# Altium footprint library Imperial_SMD.PcbLib: 79 footprints (part 3 of 5)
Each footprint in its own frame and in the unit in brackets; x right, y up, seen from the top. Pads: shape width x height; smd on the part's side, far side on the other; paste and mask are expansions set on the pad; w line width, h text height; cw(c..) or ccw(c..) is an arc to the next point about the centre after c.
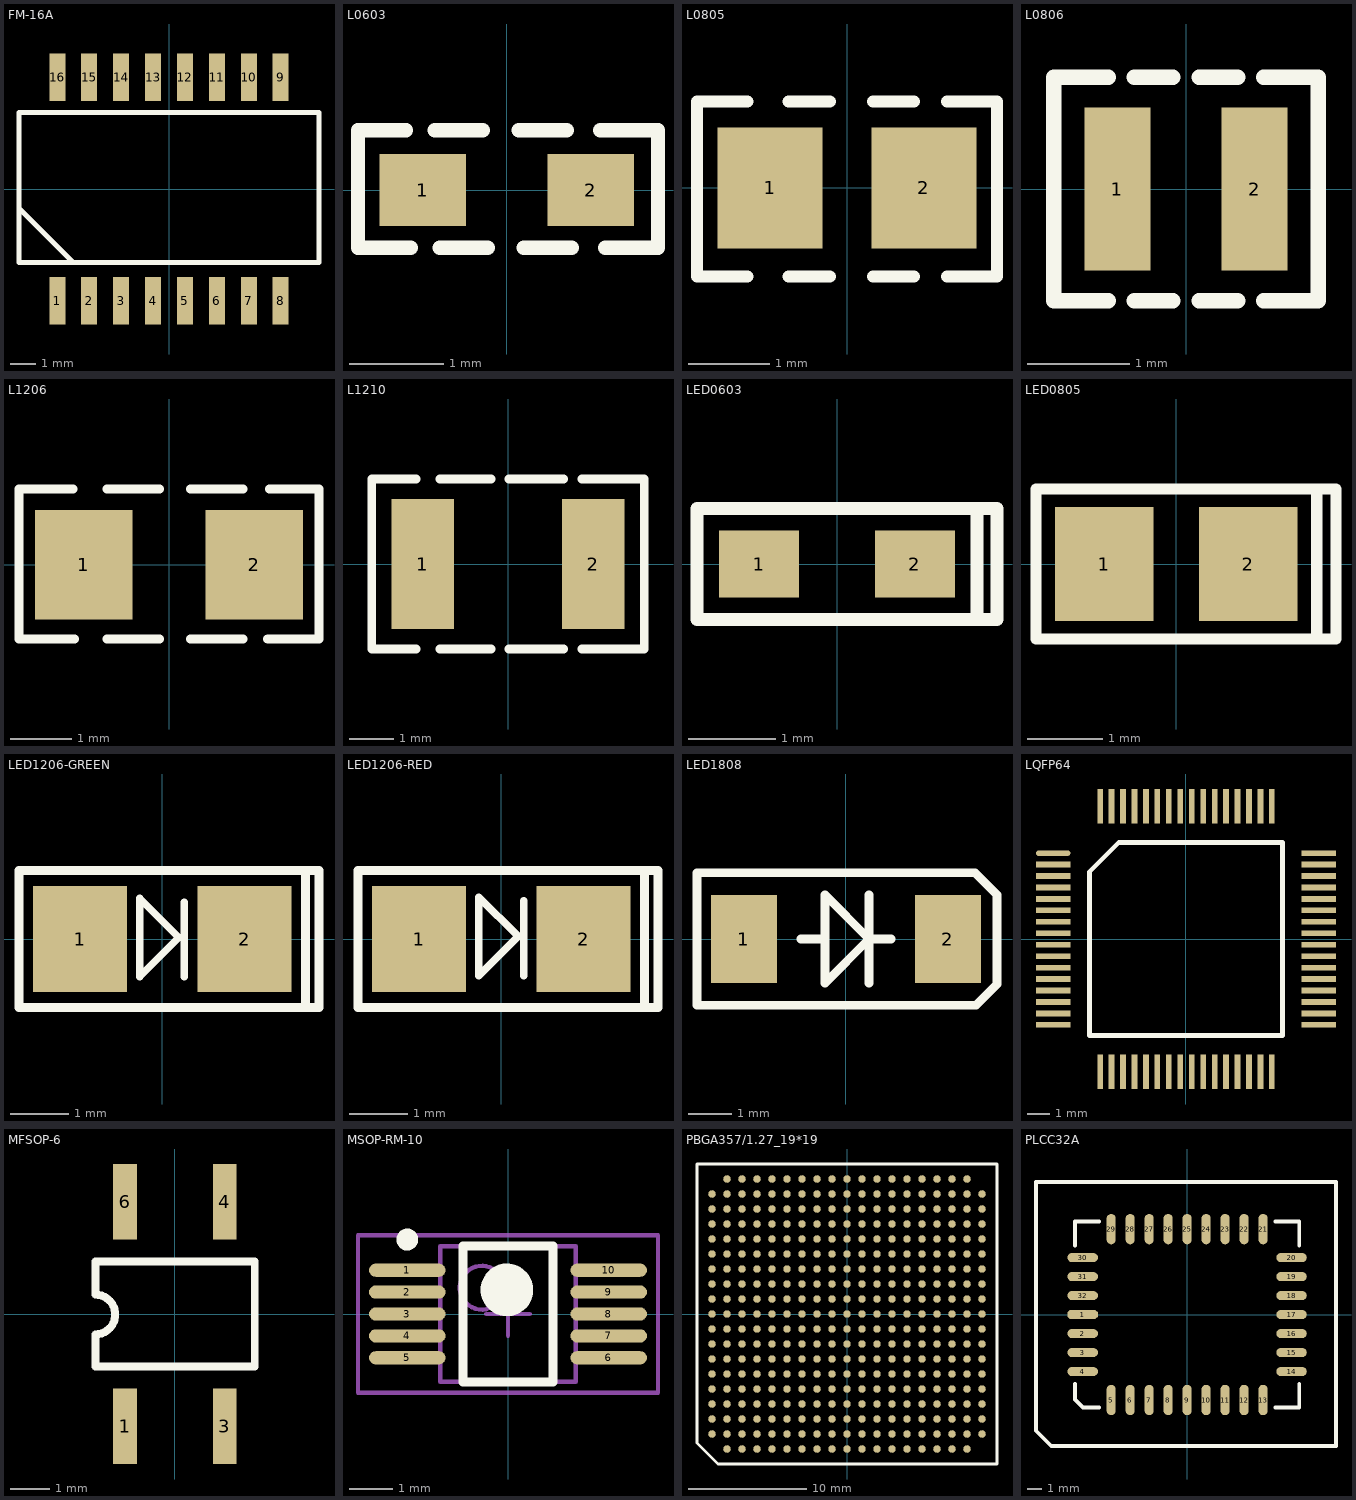
[diagram p2: the footprints below, top view; thin cyan lines are the x and y axes]

## FM-16A [mil] "以太网变压器HR601682"
height 236.22
pads (16):
  rect 25x75 smd: 1(-175,-175) 2(-125,-175) 3(-75,-175) 4(-25,-175) 5(25,-175) 6(75,-175) 7(125,-175) 8(175,-175) 9(175,175) 10(125,175) 11(75,175) 12(25,175) 13(-25,175) 14(-75,175) 15(-125,175) 16(-175,175)
Top Overlay:
  lines w8: -235,-30 -150,-115 ; -235,-115 -235,120 235,120 235,-115 -235,-115
3D body: height 240, standoff 3.94, extent -235,-115 235,120

## L0603 [mil] "贴片电感或磁珠0603,60 x 30 mil"
height 22
pads (2):
  rect 36x30 smd: 1(-35,0) 2(35,0)
Top Overlay:
  lines w5.91: -62,-24 -62,25 ; 63,-24 63,25
  lines w6: -62,-24 -40,-24 ; -61,25 -42,25 ; -30,25 -10,25 ; -28,-24 -8,-24 ; 5,25 25,25 ; 7,-24 27,-24 ; 39,25 63,25 ; 41,-24 63,-24
3D body: height 20, standoff 1, extent -23.62,-17 23.62,16.37
3D body: height 22, standoff 1, extent 23.13,-17.68 31,17
3D body: height 22, standoff 1, extent -32,-17.68 -23.13,17

## L0805 [mm] "贴片电感或磁珠0805,80 x 50mil"
height 0.559
pads (2):
  rect 1.3x1.5 smd: 1(-0.95,0) 2(0.95,0)
Top Overlay:
  lines w0.15: -1.229,-1.092 -1.854,-1.092 -1.854,1.067 -1.229,1.067 ; -0.721,-1.092 -0.213,-1.092 ; -0.721,1.067 -0.213,1.067 ; 0.32,-1.092 0.828,-1.092 ; 0.32,1.067 0.828,1.067 ; 1.234,-1.092 1.854,-1.092 1.854,1.067 1.234,1.067
3D body "User Library-V0805HD.STEP": height 1.21, standoff -0.04, extent -1.025,-0.59 0.975,0.61

## L0806 [mm] "2mmX1.6mm"
height 0.95
pads (2):
  rect 0.65x1.6 smd: 1(-0.675,0) 2(0.675,0)
Top Overlay:
  lines w0.15: -0.762,-1.1 -1.3,-1.1 -1.3,1.1 -0.762,1.1 ; -0.508,-1.1 -0.127,-1.1 ; -0.508,1.1 -0.127,1.1 ; 0.127,-1.1 0.508,-1.1 ; 0.127,1.1 0.508,1.1 ; 0.762,-1.1 1.3,-1.1 1.3,1.1 0.762,1.1

## L1206 [mm] "贴片电感或磁珠1206, 120 x 60 mil"
height 0.61
pads (2):
  rect 1.6x1.8 smd: 1(-1.4,0) 2(1.4,0)
Top Overlay:
  lines w0.15: -1.578,1.245 -2.464,1.245 -2.464,-1.219 -1.552,-1.219 ; -1.019,-1.219 -0.155,-1.219 ; -1.019,1.245 -0.155,1.245 ; 0.353,-1.219 1.216,-1.219 ; 0.353,1.245 1.216,1.245 ; 1.623,-1.219 2.464,-1.219 2.464,1.245 1.648,1.245
3D body "User Library-res1206-1.STEP": height 0.55, standoff 0, extent -1.6,-0.8 1.6,0.8
3D body: height 0.66, standoff 0.03, extent -1.527,-0.686 -1.146,0.686
3D body: height 0.66, standoff 0.03, extent 1.115,-0.686 1.496,0.686

## L1210 [mm] "贴片电感或磁珠1210,公制名称为3225,120x100mil"
pads (2):
  rect 1.4x2.9 smd: 1(-1.905,0) 2(1.905,0)
Top Overlay:
  lines w0.2: -2.057,-1.905 -3.048,-1.905 -3.048,1.905 -2.057,1.905 ; -1.524,-1.905 -0.381,-1.905 ; -1.524,1.905 -0.381,1.905 ; 0.025,-1.905 1.245,-1.905 ; 0.025,1.905 1.245,1.905 ; 1.651,-1.905 3.048,-1.905 3.048,1.905 1.651,1.905
3D body "User Library-RESC3225X06N.STEP": height 0.55, standoff 0, extent -1.6,-1.23 1.6,1.27

## LED0603 [mil] "0603表贴LED,60x30 mil"
height 40
pads (2):
  rect 36x30 smd: 1(-35,0) 2(35,0)
Top Overlay:
  lines w5.91: 63,-25 63,25 ; -63,-25 72,-25 72,25 -63,25 -63,-25
3D body: height 32, standoff 3.94, extent -28.87,-18.31 -19,18.31
3D body: height 32, standoff 3.94, extent 21.13,-18.31 31,18.31
3D body "User Library-LTST-C190GKT.STEP": height 35.43, standoff 0, extent -33.93,-18 33,17.43

## LED0805 [mm] "贴片电感或磁珠0805,80 x 50mil"
height 0.559
pads (2):
  rect 1.3x1.5 smd: 1(-0.95,0) 2(0.95,0)
Top Overlay:
  lines w0.15: 1.854,-0.991 1.854,0.991 ; -1.854,-0.991 -1.854,0.991 2.108,0.991 2.108,-0.991 -1.854,-0.991
3D body: height 0.51, standoff 0.03, extent -0.711,-0.66 0.691,0.648
3D body: height 0.56, standoff 0.03, extent -1.013,-0.686 -0.683,0.686
3D body: height 0.56, standoff 0.03, extent 0.701,-0.686 1.031,0.686

## LED1206-GREEN [mm] "Chip Diode; Body 3.2 x 1.6 mm (LxW typ)"
height 1.5
pads (2):
  rect 1.6x1.8 smd: 1(-1.4,0) 2(1.4,0)
Top Overlay:
  lines w0.127: 0.375,-0.641 0.375,0.629 ; -0.387,-0.641 0.279,0.025 -0.387,0.692 -0.387,-0.641
  lines w0.15: 2.438,-1.168 2.438,1.168 ; 2.438,-1.168 2.667,-1.168 2.667,1.168 2.438,1.168 ; 2.438,-1.168 -2.438,-1.168 -2.438,1.168 2.438,1.168
3D body: height 0.66, standoff 0.03, extent 1.115,-0.686 1.496,0.686
3D body: height 0.66, standoff 0.03, extent -1.527,-0.686 -1.146,0.686
3D body "User Library-led_1206LED1206 green.STEP": height 1.1, standoff 0, extent -1.581,-0.815 1.639,0.785

## LED1206-RED [mm] "Chip Diode; Body 3.2 x 1.6 mm (LxW typ)"
height 1.5
pads (2):
  rect 1.6x1.8 smd: 1(-1.4,0) 2(1.4,0)
Top Overlay:
  lines w0.127: 0.381,-0.622 0.381,0.648 ; -0.381,-0.622 -0.381,0.711 0.286,0.044 -0.381,-0.622
  lines w0.15: 2.438,-1.168 2.438,1.168 ; 2.438,-1.168 2.667,-1.168 2.667,1.168 2.438,1.168 ; 2.438,-1.168 -2.438,-1.168 -2.438,1.168 2.438,1.168
3D body "User Library-led_1206.STEP": height 1.1, standoff 0, extent -1.6,-0.787 1.62,0.813
3D body: height 0.66, standoff 0.03, extent 1.115,-0.686 1.496,0.686
3D body: height 0.66, standoff 0.03, extent -1.527,-0.686 -1.146,0.686

## LED1808 [mil] "同MELF封装"
pads (2):
  rect 60x80 smd: 1(-92.5,0) 2(92.5,0)
Top Overlay:
  lines w7.87: -41,0 -19,0 ; 21,-40 21,40 ; 41,0 21,0 ; 21,0 -19,40 -19,-40 21,0 ; -135,-60 -135,60 117,60 137,40 137,-41 118,-60 -135,-60
3D body "User Library-Vishay - MELF DO-213AB.STEP": height 103.74, standoff -1.38, extent -102.36,-52.12 102.36,53

## LQFP64 [mm] "AT91SAM7S64使用  64引脚"
pads (64):
  oval 1.5x0.25 smd: 1(-5.8,3.75)
  rect 1.5x0.25 smd: 2(-5.8,3.25) 3(-5.8,2.75) 4(-5.8,2.25) 5(-5.8,1.75) 6(-5.8,1.25) 7(-5.8,0.75) 8(-5.8,0.25) 9(-5.8,-0.25) 10(-5.8,-0.75) 11(-5.8,-1.25) 12(-5.8,-1.75) 13(-5.8,-2.25) 14(-5.8,-2.75) 15(-5.8,-3.25) 16(-5.8,-3.75) 33(5.8,-3.75) 34(5.8,-3.25) 35(5.8,-2.75) 36(5.8,-2.25) 37(5.8,-1.75) 38(5.8,-1.25) 39(5.8,-0.75) 40(5.8,-0.25) 41(5.8,0.25) 42(5.8,0.75) 43(5.8,1.25) 44(5.8,1.75) 45(5.8,2.25) 46(5.8,2.75) 47(5.8,3.25) 48(5.8,3.75)
  rect 0.25x1.5 smd: 17(-3.75,-5.8) 18(-3.25,-5.8) 19(-2.75,-5.8) 20(-2.25,-5.8) 21(-1.75,-5.8) 22(-1.25,-5.8) 23(-0.75,-5.8) 24(-0.25,-5.8) 25(0.25,-5.8) 26(0.75,-5.8) 27(1.25,-5.8) 28(1.75,-5.8) 29(2.25,-5.8) 30(2.75,-5.8) 31(3.25,-5.8) 32(3.75,-5.8) 49(3.75,5.8) 50(3.25,5.8) 51(2.75,5.8) 52(2.25,5.8) 53(1.75,5.8) 54(1.25,5.8) 55(0.75,5.8) 56(0.25,5.8) 57(-0.25,5.8) 58(-0.75,5.8) 59(-1.25,5.8) 60(-1.75,5.8) 61(-2.25,5.8) 62(-2.75,5.8) 63(-3.25,5.8) 64(-3.75,5.8)
Top Overlay:
  lines w0.2: -4.215,-4.215 4.215,-4.215 4.215,4.215 -2.93,4.215 -4.215,2.93 -4.215,-4.215
3D body "User Library-LQFP-64.STEP": height 1.7, standoff -0.01, extent -6,-6 6,6

## MFSOP-6 [mil] "东芝光耦TLP127典型,patch=100mil"
height 90
pads (4):
  rect 24x76 smd: 1(-50,-112.5) 3(50,-112.5) 4(50,112.5) 6(-50,112.5)
Top Overlay:
  lines w8: -79.91,-52.5 -79.91,-20.5 ccw(c-79.91,-0.5) -79.91,19.5 -79.91,52.5 80.09,52.5 80.09,-52.5 -79.91,-52.5
3D body: height 100, standoff 1, extent -80,-73.5 81,74.5

## MSOP-RM-10 [mm] "TSSOP, 10-Leads, Body 3.1x3.1mm (max), Pitch 0.50mm, IPC Medium Density"
height 0.95
pads (10):
  oval 1.75x0.3 smd: 1(-2.3,1) 2(-2.3,0.5) 3(-2.3,0) 4(-2.3,-0.5) 5(-2.3,-1) 6(2.3,-1) 7(2.3,-0.5) 8(2.3,0) 9(2.3,0.5) 10(2.3,1)
Top Overlay:
  circle w0.6: c-0.025,0.55 r0.3
  circle w0.25: c-2.3,1.7 r0.125
  lines w0.2: -1.025,-1.55 1.025,-1.55 1.025,1.55 -1.025,1.55 -1.025,-1.55
Mechanical 13:
  circle w0.1: c-0.6,0.6 r0.5
  lines w0.1: -1.55,-1.55 1.55,-1.55 1.55,1.55 -1.55,1.55 -1.55,-1.55
Mechanical 15:
  lines w0.1: -0.5,0 0.5,0 ; 0,-0.5 0,0.5 ; -3.425,-1.8 3.425,-1.8 3.425,1.8 -3.425,1.8 -3.425,-1.8
3D body: height 0.95, standoff 0.75, extent -1.55,-1.55 1.55,1.55

## PBGA357/1.27_19*19 [mil] "PBGA,357 Leads,pitch=50mil,19行，19列BGA封装"
height 99.21
pads (357):
  round 25 smd: A2(-450,-400) A3(-450,-350) A4(-450,-300) A5(-450,-250) A6(-450,-200) A7(-450,-150) A8(-450,-100) A9(-450,-50) A10(-450,0) A11(-450,50) A12(-450,100) A13(-450,150) A14(-450,200) A15(-450,250) A16(-450,300) A17(-450,350) A18(-450,400) B1(-400,-450) B2(-400,-400) B3(-400,-350) B4(-400,-300) B5(-400,-250) B6(-400,-200) B7(-400,-150) B8(-400,-100) B9(-400,-50) B10(-400,0) B11(-400,50) B12(-400,100) B13(-400,150) B14(-400,200) B15(-400,250) B16(-400,300) B17(-400,350) B18(-400,400) B19(-400,450) C1(-350,-450) C2(-350,-400) C3(-350,-350) C4(-350,-300) C5(-350,-250) C6(-350,-200) C7(-350,-150) C8(-350,-100) C9(-350,-50) C10(-350,0) C11(-350,50) C12(-350,100) C13(-350,150) C14(-350,200) C15(-350,250) C16(-350,300) C17(-350,350) C18(-350,400) C19(-350,450) D1(-300,-450) D2(-300,-400) D3(-300,-350) D4(-300,-300) D5(-300,-250) D6(-300,-200) D7(-300,-150) D8(-300,-100) D9(-300,-50) D10(-300,0) D11(-300,50) D12(-300,100) D13(-300,150) D14(-300,200) D15(-300,250) D16(-300,300) D17(-300,350) D18(-300,400) D19(-300,450) E1(-250,-450) E2(-250,-400) E3(-250,-350) E4(-250,-300) E5(-250,-250) E6(-250,-200) E7(-250,-150) E8(-250,-100) E9(-250,-50) E10(-250,0) E11(-250,50) E12(-250,100) E13(-250,150) E14(-250,200) E15(-250,250) E16(-250,300) E17(-250,350) E18(-250,400) E19(-250,450) F1(-200,-450) F2(-200,-400) F3(-200,-350) F4(-200,-300) F5(-200,-250) F6(-200,-200) F7(-200,-150) F8(-200,-100) F9(-200,-50) F10(-200,0) F11(-200,50) F12(-200,100) F13(-200,150) F14(-200,200) F15(-200,250) F16(-200,300) F17(-200,350) F18(-200,400) F19(-200,450) G1(-150,-450) G2(-150,-400) G3(-150,-350) G4(-150,-300) G5(-150,-250) G6(-150,-200) G7(-150,-150) G8(-150,-100) G9(-150,-50) G10(-150,0) G11(-150,50) G12(-150,100) G13(-150,150) G14(-150,200) G15(-150,250) G16(-150,300) G17(-150,350) G18(-150,400) G19(-150,450) H1(-100,-450) H2(-100,-400) H3(-100,-350) H4(-100,-300) H5(-100,-250) H6(-100,-200) H7(-100,-150) H8(-100,-100) H9(-100,-50) H10(-100,0) H11(-100,50) H12(-100,100) H13(-100,150) H14(-100,200) H15(-100,250) H16(-100,300) H17(-100,350) H18(-100,400) H19(-100,450) J1(-50,-450) J2(-50,-400) J3(-50,-350) J4(-50,-300) J5(-50,-250) J6(-50,-200) J7(-50,-150) J8(-50,-100) J9(-50,-50) J10(-50,0) J11(-50,50) J12(-50,100) J13(-50,150) J14(-50,200) J15(-50,250) J16(-50,300) J17(-50,350) J18(-50,400) J19(-50,450) K1(0,-450) K2(0,-400) K3(0,-350) K4(0,-300) K5(0,-250) K6(0,-200) K7(0,-150) K8(0,-100) K9(0,-50) K10(0,0) K11(0,50) K12(0,100) K13(0,150) K14(0,200) K15(0,250) K16(0,300) K17(0,350) K18(0,400) K19(0,450) L1(50,-450) L2(50,-400) L3(50,-350) L4(50,-300) L5(50,-250) L6(50,-200) L7(50,-150) L8(50,-100) L9(50,-50) L10(50,0) L11(50,50) L12(50,100) L13(50,150) L14(50,200) L15(50,250) L16(50,300) L17(50,350) L18(50,400) L19(50,450) M1(100,-450) M2(100,-400) M3(100,-350) M4(100,-300) M5(100,-250) M6(100,-200) M7(100,-150) M8(100,-100) M9(100,-50) M10(100,0) M11(100,50) M12(100,100) M13(100,150) M14(100,200) M15(100,250) M16(100,300) M17(100,350) M18(100,400) M19(100,450) N1(150,-450) N2(150,-400) N3(150,-350) N4(150,-300) N5(150,-250) N6(150,-200) N7(150,-150) N8(150,-100) N9(150,-50) N10(150,0) N11(150,50) N12(150,100) N13(150,150) N14(150,200) N15(150,250) N16(150,300) N17(150,350) N18(150,400) N19(150,450) P1(200,-450) P2(200,-400) P3(200,-350) P4(200,-300) P5(200,-250) P6(200,-200) P7(200,-150) P8(200,-100) P9(200,-50) P10(200,0) P11(200,50) P12(200,100) P13(200,150) P14(200,200) P15(200,250) P16(200,300) P17(200,350) P18(200,400) P19(200,450) R1(250,-450) R2(250,-400) R3(250,-350) R4(250,-300) R5(250,-250) R6(250,-200) R7(250,-150) R8(250,-100) R9(250,-50) R10(250,0) R11(250,50) R12(250,100) R13(250,150) R14(250,200) R15(250,250) R16(250,300) R17(250,350) R18(250,400) R19(250,450) T1(300,-450) T2(300,-400) T3(300,-350) T4(300,-300) T5(300,-250) T6(300,-200) T7(300,-150) T8(300,-100) T9(300,-50) T10(300,0) T11(300,50) T12(300,100) T13(300,150) T14(300,200) T15(300,250) T16(300,300) T17(300,350) T18(300,400) T19(300,450) U1(350,-450) U2(350,-400) U3(350,-350) U4(350,-300) U5(350,-250) U6(350,-200) U7(350,-150) U8(350,-100) U9(350,-50) U10(350,0) U11(350,50) U12(350,100) U13(350,150) U14(350,200) U15(350,250) U16(350,300) U17(350,350) U18(350,400) U19(350,450) V1(400,-450) V2(400,-400) V3(400,-350) V4(400,-300) V5(400,-250) V6(400,-200) V7(400,-150) V8(400,-100) V9(400,-50) V10(400,0) V11(400,50) V12(400,100) V13(400,150) V14(400,200) V15(400,250) V16(400,300) V17(400,350) V18(400,400) V19(400,450) W2(450,-400) W3(450,-350) W4(450,-300) W5(450,-250) W6(450,-200) W7(450,-150) W8(450,-100) W9(450,-50) W10(450,0) W11(450,50) W12(450,100) W13(450,150) W14(450,200) W15(450,250) W16(450,300) W17(450,350) W18(450,400)
Top Overlay:
  lines w10: -500,-429.87 -429.87,-500 500,-500 500,500 -500,500 -500,-429.87
3D body: height 78.74, standoff 39.37, extent -399.65,-391.59 400.35,399.78
3D body: height 39.37, standoff 3.94, extent -489.65,-490.22 490.35,495.92

## PLCC32A [mil]
height 118.11
pads (32):
  oct 80x24 smd: 1(-275,0)
  oval 80x24 smd: 2(-275,-50) 3(-275,-100) 4(-275,-150) 14(275,-150) 15(275,-100) 16(275,-50) 17(275,0) 18(275,50) 19(275,100) 20(275,150) 30(-275,150) 31(-275,100) 32(-275,50)
  oval 24x80 smd: 5(-200,-225) 6(-150,-225) 7(-100,-225) 8(-50,-225) 9(0,-225) 10(50,-225) 11(100,-225) 12(150,-225) 13(200,-225) 21(200,225) 22(150,225) 23(100,225) 24(50,225) 25(0,225) 26(-50,225) 27(-100,225) 28(-150,225) 29(-200,225)
Top Overlay:
  lines w10: -295,-182 -295,-224 -274,-245 -232,-245 ; -295,182 -295,245 -232,245 ; 232,-245 295,-245 295,-182 ; 232,245 295,245 295,182 ; -398,-306 -398,349 392,349 392,-346 -358,-346 -398,-306
3D body: height 118.11, standoff 78.74, extent -294.69,-248.03 295.87,248.03
3D body: height 98.43, standoff 3.94, extent -397.05,-346.46 390.35,350.39